# Altium integrated library LM324NE3.IntLib: 2 symbols
Pins are listed as number, name and electrical type; pins without a type are passive.

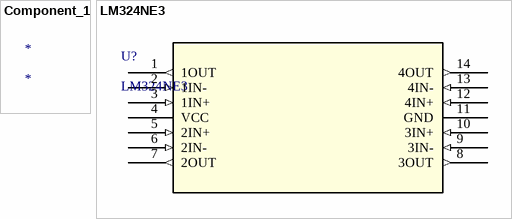
[diagram p0: symbols Component_1 to LM324NE3]

## Component_1
designator *

## LM324NE3
designator U?
No Description Available; Mfr_Name: Texas Instruments; Copyright: Copyright (C) 2022 Ultra Librarian. All rights reserved.; Manufacturer_Part_Number: LM324NE3; RefDes: RefDes; Type: DEV
footprint N14
pins: 1 1OUT (out), 2 1IN- (in), 3 1IN+ (in), 4 VCC (power), 5 2IN+ (in), 6 2IN- (in), 7 2OUT (out), 8 3OUT (out), 9 3IN- (in), 10 3IN+ (in), 11 GND (power), 12 4IN+ (in), 13 4IN- (in), 14 4OUT (out)